# EAGLE library part FH23-15-CONN (library Connectors)
Faulhaber 1202 15 pin connector where pin one is the start voltage
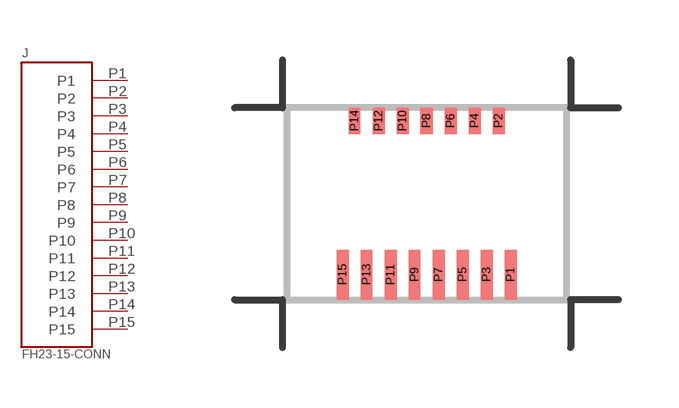
[diagram p0: symbol with the pads of FH23-15; footprint FH23-15]

Designator prefix J

## FH23-15-CONN  [FH23-15]
P1  P1
P2  P2
P3  P3
P4  P4
P5  P5
P6  P6
P7  P7
P8  P8
P9  P9
P10  P10
P11  P11
P12  P12
P13  P13
P14  P14
P15  P15

## Footprint FH23-15 (pad centres in mm)
Faulhaber 1202 motor connector FH23-15 (15 pins)
smd 0.3 x 1.25: P1 2.1,-1.775; P3 1.5,-1.775; P5 0.9,-1.775; P7 0.3,-1.775; P9 -0.3,-1.775; P11 -0.9,-1.775; P13 -1.5,-1.775; P15 -2.1,-1.775
smd 0.3 x 0.65: P2 1.8,2.075; P4 1.2,2.075; P6 0.6,2.075; P8 0,2.075; P10 -0.6,2.075; P12 -1.2,2.075; P14 -1.8,2.075